# Altium schematic symbol library Relays.SchLib: 1 symbol
Pins are listed as number, name and electrical type; pins without a type are passive.

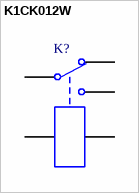
[diagram p0: symbol K1CK012W]

## K1CK012W
designator K?  (value not drawn)
Single-Pole Dual-Throw Relay; Maximum current AC: 16A; Coil voltage: 12V; Maximum voltage AC: 250V
footprint K1CK012W (12V, 16A 250VAC)
simulation model SPDTRELAY (Spice Subcircuit)
pins: 1, 2, 3, 4, 5